# Altium schematic symbol library a_Valider_AUTRES.SchLib: 9 symbols
Pins are listed as number, name and electrical type; pins without a type are passive.

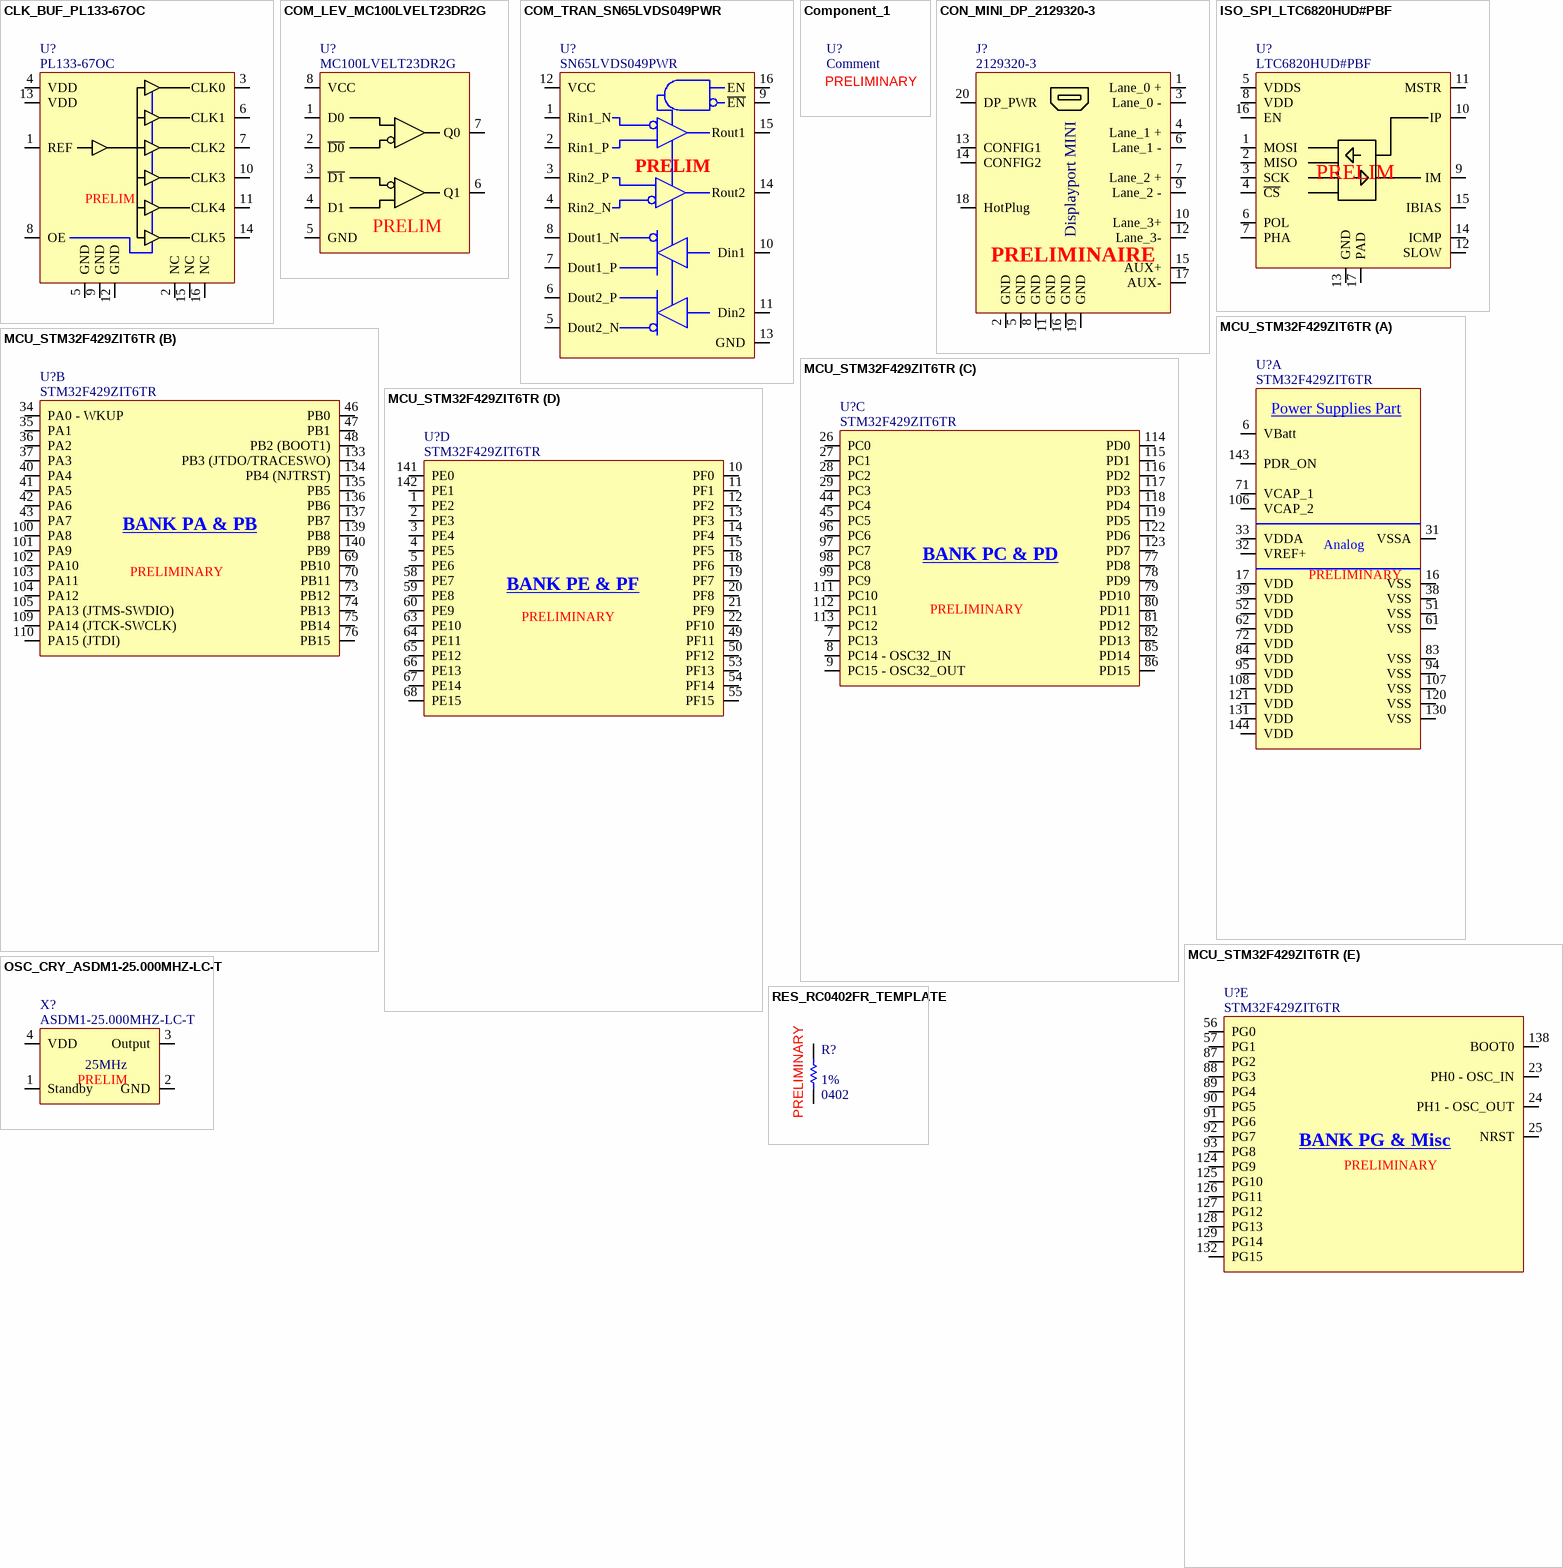
[diagram p0: symbols CLK_BUF_PL133-67OC to RES_RC0402FR_TEMPLATE]

## CLK_BUF_PL133-67OC
designator U?, comment PL133-67OC
Clock Fanout Buffer (Distribution) IC 1:6 16-TSSOP (0.173", 4.40mm Width) / LVCMOS; GRAMS Lib Spec: 2.7; Value: 1:6
pins: 1 REF, 2 NC, 3 CLK0, 4 VDD, 5 GND, 6 CLK1, 7 CLK2, 8 OE, 9 GND, 10 CLK3, 11 CLK4, 12 GND, 13 VDD, 14 CLK5, 15 NC, 16 NC
text: PRELIM

## COM_LEV_MC100LVELT23DR2G
designator U?, comment MC100LVELT23DR2G
COM -  Mixed Signal Translator Unidirectional 1 Circuit 2 Channel - 8-SOIC; Manufacturer #1: ON Semiconductor; Voltage Rating: 3.8 V; Current Rating: 50mA Continuous/100mA Surge; Power Max: 132mW (40mA*3.3V); GRAMS Lib Spec: 2.7; Magnetic Material: Unknown; Polarized: YES; Value: -; Tolerance: -; HelpURL: https://www.onsemi.com/pdf/datasheet/mc100lvelt23-d.pdf; CreatedBy/Date: Philippe Arsenault/2021-03-24; Temperature: -40°C ~ 85°C (TA); Package: 8-SOIC; Manufacturer #2: -; Note: -; Assembly Type: SMT; Part Number #1: MC100LVELT23DR2G; Supplier 1: Digi-Key; Supplier Part Number 1: MC100LVELT23DR2GOSCT-ND
footprint COM_LEV_MC100LVELT23DR2G (SOIC-8)
pins: 1 D0, 2 ~{D0}, 3 ~{D1}, 4 D1, 5 GND, 6 Q1, 7 Q0, 8 VCC
text: PRELIM

## COM_TRAN_SN65LVDS049PWR
designator U?, comment SN65LVDS049PWR
2/2 Transceiver Full LVDS 16-TSSOP; Manufacturer #1: Texas Instruments; Voltage Rating: -0.3V to 4V; Current Rating: 35mA; Power Max: 140mW; GRAMS Lib Spec: 2.7; Note: Could be replaced by DS90LV049; Magnetic Material: Unknown; Polarized: Yes; HelpURL: https://www.ti.com/lit/ds/symlink/sn65lvds049.pdf?HQS=dis-dk-null-digikeymode-dsf-pf-null-wwe&ts=1616618236279; CreatedBy/Date: Philippe Arsenault/2021-03-24; Temperature: -40°C ~ 85°C; Package: 16-TSSOP; Assembly Type: SMT; Part Number #1: SN65LVDS049PWR; Supplier 1: Digi-Key; Supplier Part Number 1: 296-26358-1-ND
footprint COM_TRAN_SN65LVDS049 (TTSOP-16)
pins: 1 Rin1_N, 2 Rin1_P, 3 Rin2_P, 4 Rin2_N, 5 Dout2_N, 6 Dout2_P, 7 Dout1_P, 8 Dout1_N, 9 ~{EN}, 10 Din1, 11 Din2, 12 VCC, 13 GND, 14 Rout2, 15 Rout1, 16 EN
text: PRELIM

## Component_1
designator U?, comment Comment
XXX - Description - Package; GRAMS Lib Spec: 2.7
text: PRELIMINARY

## CON_MINI_DP_2129320-3
designator J?, comment 2129320-3
DisplayPort, Mini - Receptacle Connector 20 Position Through Hole, Right Angle; Manufacturer #1: TE Connectivity AMP Connectors; Value: RA; Voltage Rating: 16V; Current Rating: 500mA; GRAMS Lib Spec: 2.7; Magnetic Material: Unknown; Polarized: Yes; HelpURL: https://www.te.com/commerce/DocumentDelivery/DDEController?Action=srchrtrv&DocNm=2129320&DocType=Customer+Drawing&DocLang=English; CreatedBy/Date: Philippe Arsenault/2021-03-19; Package: 20 pin mini DIsplayport; Assembly Type: TH; Part Number #1: 2129320-3; Supplier 1: Digi-Key; Supplier Part Number 1: A120537CT-ND
footprint CON_mini_DP_2129320-3 (Mini Displayport)
pins: 1 Lane_0 +, 2 GND, 3 Lane_0 -, 4 Lane_1 +, 5 GND, 6 Lane_1 -, 7 Lane_2 +, 8 GND, 9 Lane_2 -, 10 Lane_3+, 11 GND, 12 Lane_3-, 13 CONFIG1, 14 CONFIG2, 15 AUX+, 16 GND, 17 AUX-, 18 HotPlug, 19 GND, 20 DP_PWR
text: Displayport MINI; PRELIMINAIRE

## ISO_SPI_LTC6820HUD#PBF
designator U?, comment LTC6820HUD#PBF
ISO-SPI Isolated Communications Interface Interface 16-QFN (3x3); Manufacturer #1: Analog Devices; Voltage Rating: –0.3V to 6V; Current Rating: Diff = 30mA/SPI = 20mA; GRAMS Lib Spec: 2.7; Magnetic Material: Unknown; Polarized: YES; HelpURL: https://www.analog.com/media/en/technical-documentation/data-sheets/LTC6820.pdf; CreatedBy/Date: Philippe Arsenault/ 2021-03-20; Temperature: –40°C to 125°C; Package: QFN16; Assembly Type: SMT; Part Number #1: LTC6820HUD#PBF; Supplier 1: Digi-Key; Supplier Part Number 1: LTC6820HUD#PBF-ND
footprint ISO_SPI_LTC6820HUD#PBF (QFN, 16-Leads, Body 3,00x3,00mm, Pitch 0,50mm, Thermal Pad 1,60x1,60mm, IPC Medium Density)
pins: 1 MOSI, 2 MISO, 3 SCK, 4 ~{CS}, 5 VDDS, 6 POL, 7 PHA, 8 VDD, 9 IM, 10 IP, 11 MSTR, 12 SLOW, 13 GND, 14 ICMP, 15 IBIAS, 16 EN, 17 PAD
text: PRELIM

## MCU_STM32F429ZIT6TR
designator U?, comment STM32F429ZIT6TR
ARM® Cortex®-M4 STM32F4 Microcontroller IC 32-Bit 180MHz 2MB (2M x 8) FLASH 144-LQFP (20x20); Manufacturer #1: ST Microelectronics; Value: ARM Cortex-M4; Voltage Rating: 4V; Current Rating: 270mA; Power Max: 500mW; GRAMS Lib Spec: 2.7; Note: Internal Oscillator; Magnetic Material: Unknown; Polarized: Yes; Tolerance: *; HelpURL: https://www.st.com/content/ccc/resource/technical/document/datasheet/03/b4/b2/36/4c/72/49/29/DM00071990.pdf/files/DM00071990.pdf/jcr:content/translations/en.DM00071990.pdf; CreatedBy/Date: Philippe Arsenault/2021-01-21; VerifiedBy: *; Temperature: -40°C ~ 85°C; Package: 144-LQFP; Manufacturer #2: *; Assembly Type: Surface Mount; Part Number #2: *; Part Number #1: STM32F429ZIT6TR; Supplier 1: Digi-Key; Supplier Part Number 1: 497-19353-1-ND
footprint MCU_STM32F429ZIT6TR (LQFP-144)
part A pins: 6 VBatt, 16 VSS, 17 VDD, 31 VSSA, 32 VREF+, 33 VDDA, 38 VSS, 39 VDD, 51 VSS, 52 VDD, 61 VSS, 62 VDD, 71 VCAP_1, 72 VDD, 83 VSS, 84 VDD, 94 VSS, 95 VDD, 106 VCAP_2, 107 VSS, 108 VDD, 120 VSS, 121 VDD, 130 VSS, 131 VDD, 143 PDR_ON, 144 VDD
part B pins: 34 PA0 - WKUP, 35 PA1, 36 PA2, 37 PA3, 40 PA4, 41 PA5, 42 PA6, 43 PA7, 46 PB0, 47 PB1, 48 PB2 (BOOT1), 69 PB10, 70 PB11, 73 PB12, 74 PB13, 75 PB14, 76 PB15, 100 PA8, 101 PA9, 102 PA10, 103 PA11, 104 PA12, 105 PA13 (JTMS-SWDIO), 109 PA14 (JTCK-SWCLK), 110 PA15 (JTDI), 133 PB3 (JTDO/TRACESWO), 134 PB4 (NJTRST), 135 PB5, 136 PB6, 137 PB7, 139 PB8, 140 PB9
part C pins: 7 PC13, 8 PC14 - OSC32_IN, 9 PC15 - OSC32_OUT, 26 PC0, 27 PC1, 28 PC2, 29 PC3, 44 PC4, 45 PC5, 77 PD8, 78 PD9, 79 PD10, 80 PD11, 81 PD12, 82 PD13, 85 PD14, 86 PD15, 96 PC6, 97 PC7, 98 PC8, 99 PC9, 111 PC10, 112 PC11, 113 PC12, 114 PD0, 115 PD1, 116 PD2, 117 PD3, 118 PD4, 119 PD5, 122 PD6, 123 PD7
part D pins: 1 PE2, 2 PE3, 3 PE4, 4 PE5, 5 PE6, 10 PF0, 11 PF1, 12 PF2, 13 PF3, 14 PF4, 15 PF5, 18 PF6, 19 PF7, 20 PF8, 21 PF9, 22 PF10, 49 PF11, 50 PF12, 53 PF13, 54 PF14, 55 PF15, 58 PE7, 59 PE8, 60 PE9, 63 PE10, 64 PE11, 65 PE12, 66 PE13, 67 PE14, 68 PE15, 141 PE0, 142 PE1
part E pins: 23 PH0 - OSC_IN, 24 PH1 - OSC_OUT, 25 NRST, 56 PG0, 57 PG1, 87 PG2, 88 PG3, 89 PG4, 90 PG5, 91 PG6, 92 PG7, 93 PG8, 124 PG9, 125 PG10, 126 PG11, 127 PG12, 128 PG13, 129 PG14, 132 PG15, 138 BOOT0
part A text: Power Supplies Part; Analog; PRELIMINARY
part B text: BANK PA & PB; PRELIMINARY
part C text: BANK PC & PD; PRELIMINARY
part D text: BANK PE & PF; PRELIMINARY
part E text: BANK PG & Misc; PRELIMINARY

## OSC_CRY_ASDM1-25.000MHZ-LC-T
designator X?, comment ASDM1-25.000MHZ-LC-T
OSC_CRY - 25MHz +-50ppm LVCMOS Crystal; Manufacturer #1: Abracon LLC; Voltage Rating: 1.8 ~ 3.3V; Current Rating: 15mA; Power Max: 50mW; GRAMS Lib Spec: 2.8; Magnetic Material: Unknown; Polarized: YES; Value: 25.000MHz; HelpURL: https://abracon.com/Oscillators/ASDM.pdf; CreatedBy/Date: Philippe Arsenault/2021-04-07; Temperature: -40°C ~ 85°C; Package: 4-SMD; Assembly Type: SMD; Part Number #1: ASDM1-25.000MHZ-LC-T; Supplier 1: Digi-Key; Supplier Part Number 1: 535-9792-1-ND
footprint OSC_CRY_ASDM1-25.000MHZ-LC-T (4-SMD, No Lead)
pins: 1 Standby, 2 GND, 3 Output, 4 VDD
text: 25MHz; PRELIM

## RES_RC0402FR_TEMPLATE
designator R?, comment Tolerance: 1%  Package: 0402  (hidden comment: RC0402FR- XXXXX)
RES - XXXX 1% 1/16W - 0402; Manufacturer #1: Yageo; GRAMS Lib Spec: 2.8c; Magnetic Material: Unknown; Polarized: No; Voltage Rating: 50V; Assembly Type: SMD; CreatedBy/Date: Louis-Daniel Gaulin; Current Rating: *; Manufacturer #2: *; Note: *; Part Number #2: *; Power Max: 1/16W; Temperature: -55°C ~ 155°C; Supplier 1: Digi-Key
footprint RES_0402 (Resistor - 0402)
pins: 1, 2
text: PRELIMINARY